# Altium schematic symbol library CAS143-47.SchLib: 1 symbol
Pins are listed as number, name and electrical type; pins without a type are passive.

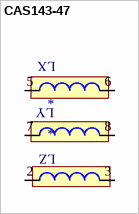
[diagram p0: symbol CAS143-47]

## CAS143-47
designator *
footprint CAS143-47
pins: 2, 3, 5, 6, 7, 8
text: LX; LY; LZ